# Altium footprint library Tray2.PcbLib: 104 footprints (part 3 of 7)
Each footprint in its own frame and in the unit in brackets; x right, y up, seen from the top. Pads: shape width x height; smd on the part's side, far side on the other; paste and mask are expansions set on the pad; w line width, h text height; cw(c..) or ccw(c..) is an arc to the next point about the centre after c.
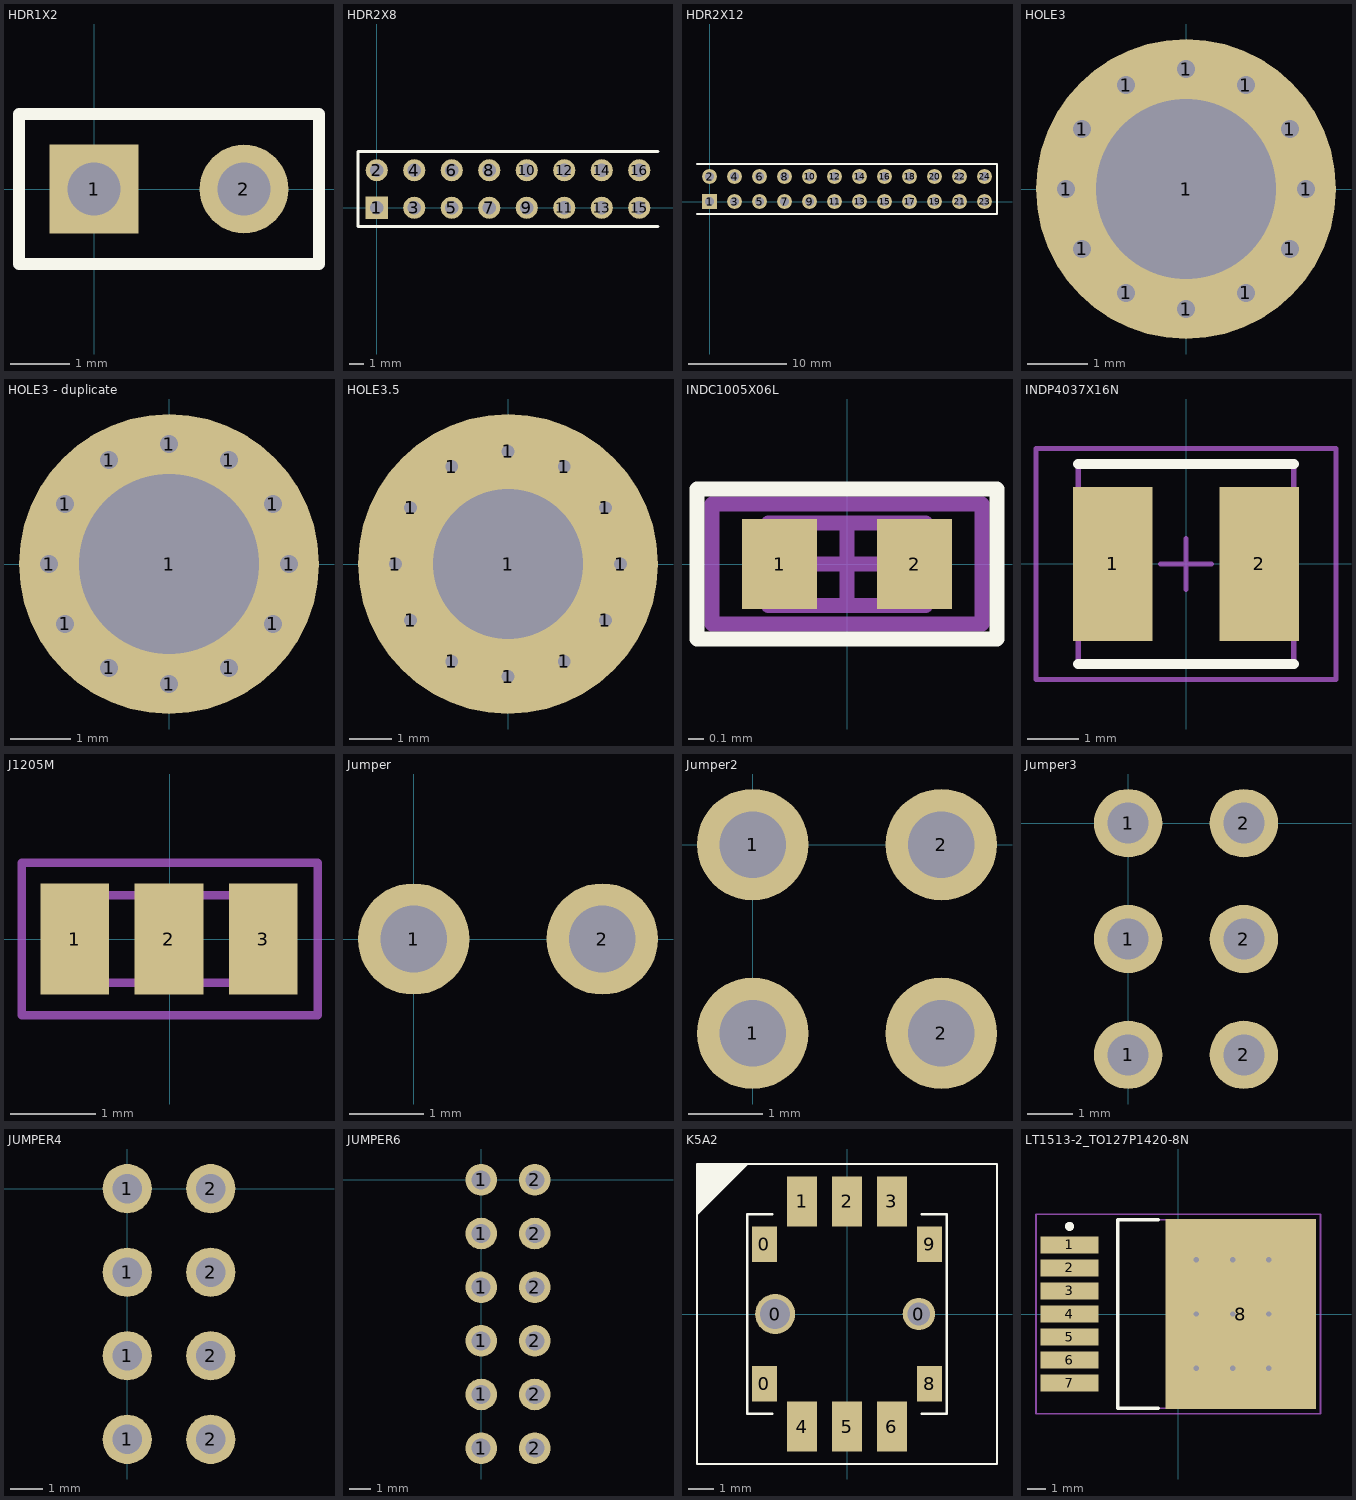
[diagram p2: the footprints below, top view; thin cyan lines are the x and y axes]

## HDR1X2 [mm] "Connector; Header; 2 Position"
pads (2):
  rect 1.5x1.5 hole 0.9: 1(0,0)
  round 1.5 hole 0.9: 2(2.54,0)
Top Overlay:
  lines w0.2: -1.27,-1.27 3.81,-1.27 3.81,1.27 -1.27,1.27 -1.27,-1.27

## HDR2X8 [mm] "Connector; Header; 8x2 Position"
pads (16):
  rect 1.5x1.5 hole 0.9: 1(0,0)
  round 1.5 hole 0.9: 2(0,2.54) 3(2.54,0) 4(2.54,2.54) 5(5.08,0) 6(5.08,2.54) 7(7.62,0) 8(7.62,2.54) 9(10.16,0) 10(10.16,2.54) 11(12.7,0) 12(12.7,2.54) 13(15.24,0) 14(15.24,2.54) 15(17.78,0) 16(17.78,2.54)
Top Overlay:
  lines w0.2: 19.05,-1.27 -1.27,-1.27 -1.27,3.81 19.05,3.81

## HDR2X12 [mm] "Connector; Header; 12x2 Position"
pads (24):
  rect 1.5x1.5 hole 0.9: 1(0,0)
  round 1.5 hole 0.9: 2(0,2.54) 3(2.54,0) 4(2.54,2.54) 5(5.08,0) 6(5.08,2.54) 7(7.62,0) 8(7.62,2.54) 9(10.16,0) 10(10.16,2.54) 11(12.7,0) 12(12.7,2.54) 13(15.24,0) 14(15.24,2.54) 15(17.78,0) 16(17.78,2.54) 17(20.32,0) 18(20.32,2.54) 19(22.86,0) 20(22.86,2.54) 21(25.4,0) 22(25.4,2.54) 23(27.94,0) 24(27.94,2.54)
Top Overlay:
  lines w0.2: -1.27,-1.27 29.21,-1.27 29.21,3.81 -1.27,3.81

## HOLE3 [mm]
pads (13):
  round 1 hole 0.3: 1(-2,0) 1(-1.732,-1) 1(-1.732,1) 1(-1,-1.732) 1(-1,1.732) 1(0,-2) 1(0,2) 1(1,-1.732) 1(1,1.732) 1(1.732,-1) 1(1.732,1) 1(2,0)
  round 5 hole 3: 1(0,0)

## HOLE3 - duplicate [mm]
pads (13):
  round 1 hole 0.3: 1(-2,0) 1(-1.732,-1) 1(-1.732,1) 1(-1,-1.732) 1(-1,1.732) 1(0,-2) 1(0,2) 1(1,-1.732) 1(1,1.732) 1(1.732,-1) 1(1.732,1) 1(2,0)
  round 5 hole 3: 1(0,0)

## HOLE3.5 [mm]
pads (13):
  round 1 hole 0.3: 1(-2.625,0) 1(-2.273,-1.312) 1(-2.273,1.312) 1(-1.312,2.273) 1(-1.312,-2.273) 1(0,-2.625) 1(0,2.625) 1(1.312,-2.273) 1(1.312,2.273) 1(2.273,-1.312) 1(2.273,1.312) 1(2.625,0)
  round 7 hole 3.5: 1(0,0)

## INDC1005X06L [mm] "Chip Inductor, 2-Leads, Body 1.0x0.5mm, IPC High Density"
height 0.55
pads (2):
  rect 0.5x0.6 smd: 1(-0.45,0) 2(0.45,0)
Top Overlay:
  lines w0.1: -1,-0.5 -1,0.5 1,0.5 1,-0.5 -1,-0.5
Mechanical 13:
  lines w0.1: -0.525,-0.275 -0.525,0.275 0.525,0.275 0.525,-0.275 -0.525,-0.275
Mechanical 15:
  lines w0.1: -0.275,0 0.275,0 ; 0,-0.275 0,0.275 ; -0.9,-0.4 -0.9,0.4 0.9,0.4 0.9,-0.4 -0.9,-0.4
3D body: height 0.55, standoff 0, extent -0.525,-0.275 0.525,0.275

## INDP4037X16N [mm] "Precision Wire Wound Inductor, 2-Leads, Body 4.0x3.7mm, IPC Medium Density"
height 1.65
pads (2):
  rect 1.55x3 smd: 1(-1.425,0) 2(1.425,0)
Top Overlay:
  lines w0.2: -2.1,-1.95 2.1,-1.95 ; -2.1,1.95 2.1,1.95
Mechanical 13:
  lines w0.1: -2.1,-1.95 2.1,-1.95 2.1,1.95 -2.1,1.95 -2.1,-1.95
Mechanical 15:
  lines w0.1: -0.5,0 0.5,0 ; 0,-0.5 0,0.5 ; -2.925,-2.25 2.925,-2.25 2.925,2.25 -2.925,2.25 -2.925,-2.25
3D body: height 1.65, standoff 0, extent -2.1,-1.95 2.1,1.95

## J1205M [mm] "Chip Resistor, 2-Leads, Body 1.0x0.5mm, IPC Medium Density"
height 0.6
pads (3):
  rect 0.8x1.3 smd: 1(-1.109,0) 2(-0.009,0) 3(1.091,0)
Top Solder:
  rectangle: -1.6,-0.737 1.575,0.737
Mechanical 13:
  lines w0.1: -1.321,-0.508 -1.321,0.508 1.346,0.508 1.346,-0.508 -1.321,-0.508
Mechanical 15:
  lines w0.1: -1.727,-0.889 -1.727,0.889 1.727,0.889 1.727,-0.889 -1.727,-0.889
3D body: height 0.6, standoff 0, extent -1.321,-0.508 1.346,0.508

## Jumper [mm] "Connector; Header; 2 Position"
pads (2):
  round 1.5 hole 0.9: 1(0,0) 2(2.54,0)

## Jumper2 [mm] "Connector; Header; 2 Position"
pads (4):
  round 1.5 hole 0.9: 1(0,-2.54) 1(0,0) 2(2.54,-2.54) 2(2.54,0)

## Jumper3 [mm] "Connector; Header; 2 Position"
pads (6):
  round 1.5 hole 0.9: 1(0,-5.08) 1(0,-2.54) 1(0,0) 2(2.54,-5.08) 2(2.54,-2.54) 2(2.54,0)

## JUMPER4 [mm] "Connector; Header; 2 Position"
pads (8):
  round 1.5 hole 0.9: 1(0,-7.62) 1(0,-5.08) 1(0,-2.54) 1(0,0) 2(2.54,-7.62) 2(2.54,-5.08) 2(2.54,-2.54) 2(2.54,0)

## JUMPER6 [mm] "Connector; Header; 2 Position"
pads (12):
  round 1.5 hole 0.9: 1(0,-12.7) 1(0,-10.16) 1(0,-7.62) 1(0,-5.08) 1(0,-2.54) 1(0,0) 2(2.54,-12.7) 2(2.54,-10.16) 2(2.54,-7.62) 2(2.54,-5.08) 2(2.54,-2.54) 2(2.54,0)

## K5A2 [mm]
pads (12):
  rect 1x1.42 smd: 0(-3.3,-2.8) 0(-3.3,2.8) 8(3.3,-2.8) 9(3.3,2.8)
  round 1.6 hole 1.2: 0(-2.875,0)
  round 1.3 hole 0.9: 0(2.875,0)
  rect 1.2x2 smd: 1(-1.8,4.5) 2(0,4.5) 3(1.8,4.5) 4(-1.8,-4.5) 5(0,-4.5) 6(1.8,-4.5)
Top Overlay:
  region: -4,6 -6,6 -6,4
  lines w0.1: -6,4 -4,6 ; -3,-4 -4,-4 -4,4 -3,4 ; 3,-4 4,-4 4,4 3,4 ; -6,-6 6,-6 6,6 -6,6 -6,-6
3D body: height 3.2, standoff 0, extent -4.125,-3 4.125,3
3D body: height 3.55, standoff 0, extent -4,-4 4,4
3D body: height 4.55, standoff 0, extent -3.175,-3.194 3.2,3.194

## LT1513-2_TO127P1420-8N [mm] "D2-PAK, 8-Leads, Body 8.9x10.1mm, Pitch 1.27mm, Lead Span 14.2mm, IPC Medium Density"
height 4.65
pads (8):
  rect 3.2x0.95 smd: 1(-6,3.81) 2(-6,2.54) 3(-6,1.27) 4(-6,0) 5(-6,-1.27) 6(-6,-2.54) 7(-6,-3.81)
  rect 8.3x10.5 smd: 8(3.45,0)
via 1,-3 diameter 0.5 hole 0.3
via 3,-3 diameter 0.5 hole 0.3
via 5,-3 diameter 0.5 hole 0.3
via 1,0 diameter 0.5 hole 0.3
via 3,0 diameter 0.5 hole 0.3
via 5,0 diameter 0.5 hole 0.3
via 1,3 diameter 0.5 hole 0.3
via 3,3 diameter 0.5 hole 0.3
via 5,3 diameter 0.5 hole 0.3
Top Overlay:
  circle w0.25: c-6,4.835 r0.125
  lines w0.2: -1.1,-5.2 -3.35,-5.2 -3.35,5.2 -1.1,5.2
Mechanical 13:
  lines w0.1: -3.35,-5.2 6.05,-5.2 6.05,5.2 -3.35,5.2 -3.35,-5.2
Mechanical 15:
  lines w0.1: -0.5,0 0.5,0 ; 0,-0.5 0,0.5 ; -7.85,-5.5 7.85,-5.5 7.85,5.5 -7.85,5.5 -7.85,-5.5
3D body: height 4.65, standoff 0, extent -3.35,-5.2 6.05,5.2